# Altium schematic symbol library SWITCH_TOGGLE_SPDT.SchLib: 1 symbol
Pins are listed as number, name and electrical type; pins without a type are passive.

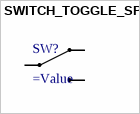
[diagram p0: symbol SWITCH_TOGGLE_SPDT]

## SWITCH_TOGGLE_SPDT
designator SW?
=Description
pins: 1, 2, 3